# EAGLE library part SI4835DDY-T1-GE3 (library PDUv2)
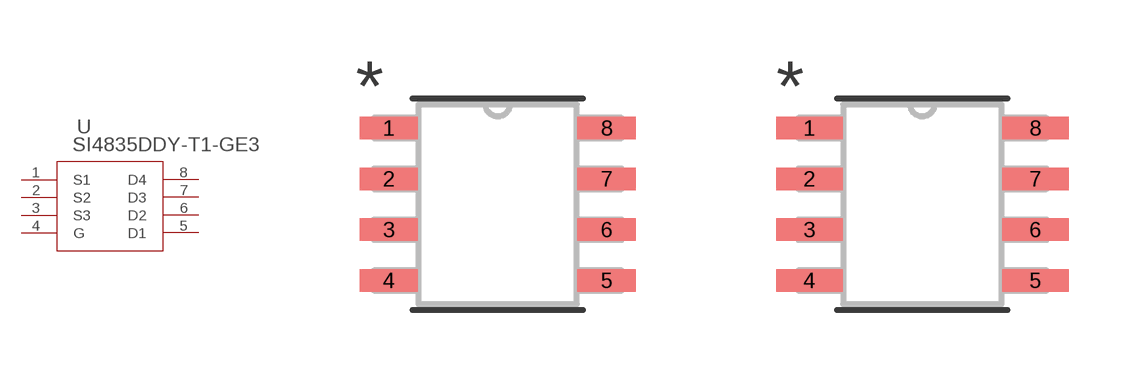
[diagram p0: symbol with the pads of SOIC_DY-T1-GE3_VIS; footprints SOIC_DY-T1-GE3_VIS, SOIC_DY-T1-GE3_VIS-M]

Designator prefix U

## SI4835DDY-T1-GE3 (COPYRIGHT: Copyright (C) 2021 Ultra Librarian. All rights reserved.; MANUFACTURER_PART_NUMBER: SI4835DDY-T1-GE3; MFR_NAME: Vishay)  [SOIC_DY-T1-GE3_VIS]
1  S1  pas
2  S2  pas
3  S3  pas
4  G  pas
5  D1  pas
6  D2  pas
7  D3  pas
8  D4  pas

## SI4835DDY-T1-GE3SOIC_DY-T1-GE3_VIS-M (COPYRIGHT: Copyright (C) 2021 Ultra Librarian. All rights reserved.; MANUFACTURER_PART_NUMBER: SI4835DDY-T1-GE3; MFR_NAME: Vishay)  [SOIC_DY-T1-GE3_VIS-M]
Pads as for SOIC_DY-T1-GE3_VIS

## SI4835DDY-T1-GE3SOIC_DY-T1-GE3_VIS-L (COPYRIGHT: Copyright (C) 2021 Ultra Librarian. All rights reserved.; MANUFACTURER_PART_NUMBER: SI4835DDY-T1-GE3; MFR_NAME: Vishay)  [SOIC_DY-T1-GE3_VIS-L]
Pads as for SOIC_DY-T1-GE3_VIS

## Footprint SOIC_DY-T1-GE3_VIS (pad centres in mm)
smd 1.46 x 0.559: 1 -2.724,1.905; 2 -2.724,0.635; 3 -2.724,-0.635; 4 -2.724,-1.905; 5 2.724,-1.905; 6 2.724,-0.635; 7 2.724,0.635; 8 2.724,1.905

## Footprint SOIC_DY-T1-GE3_VIS-M (pad centres in mm)
smd 1.664 x 0.559: 1 -2.826,1.905; 2 -2.826,0.635; 3 -2.826,-0.635; 4 -2.826,-1.905; 5 2.826,-1.905; 6 2.826,-0.635; 7 2.826,0.635; 8 2.826,1.905

## Footprint SOIC_DY-T1-GE3_VIS-L (pad centres in mm)
smd 1.257 x 0.508: 1 -2.623,1.905; 2 -2.623,0.635; 3 -2.623,-0.635; 4 -2.623,-1.905; 5 2.623,-1.905; 6 2.623,-0.635; 7 2.623,0.635; 8 2.623,1.905